# EAGLE library part SCLF-225 (library ic)
SCLF-225: Lowpass 250MHz (Mini-Circuits)
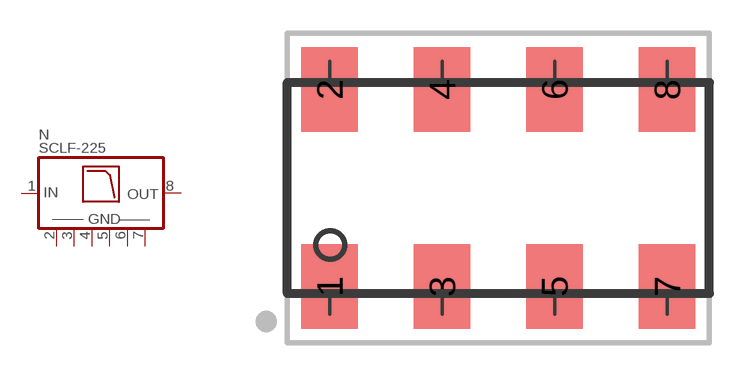
[diagram p83: symbol with the pads of MC-YY101; footprint MC-YY101]

Designator prefix N

## SCLF-225  [MC-YY101]
1  IN  in
2  GND
3  GND
4  GND
5  GND
6  GND
7  GND
8  OUT  out

## Footprint MC-YY101 (pad centres in mm)
Mini-Circuits YY101 SMD plastic case (19*10mm), 8 pins compatible with other YY cases
smd 2.54 x 3.81: 1 -7.62,-4.445; 2 -7.62,4.445; 3 -2.54,-4.445; 4 -2.54,4.445; 5 2.54,-4.445; 6 2.54,4.445; 7 7.62,-4.445; 8 7.62,4.445